# EAGLE library part TL072CP (library TL072CP)
Dual Low-Noise JFET-Input General-Purpose Operational Amplifier Source: Datasheet <http://www.ti.com/lit/ds/symlink/tl071a.pdf>
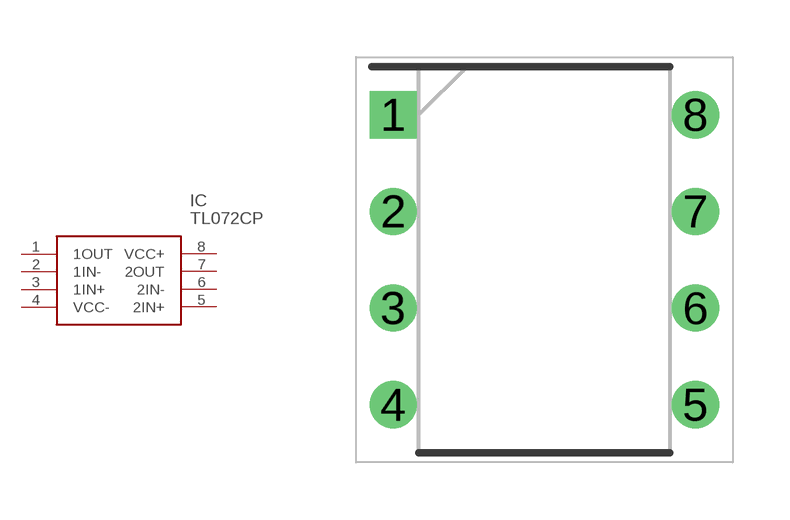
[diagram p0: symbol with the pads of DIP794W53P254L959H508Q8N; footprint DIP794W53P254L959H508Q8N]

Designator prefix IC

## TL072CP (Description: Dual Low-Noise JFET-Input General-Purpose Operational Amplifier; Height: 5.08mm; Manufacturer_Name: Texas Instruments; Manufacturer_Part_Number: TL072CP; Mouser_Part_Number: 595-TL072CP; Mouser_Price-Stock: https://www.mouser.co.uk/ProductDetail/Texas-Instruments/TL072CP?qs=5nGYs9Do7G3e6Tx9uHIgUA%3D%3D)  [DIP794W53P254L959H508Q8N]
1  1OUT
2  1IN-
3  1IN+
4  VCC-
5  2IN+
6  2IN-
7  2OUT
8  VCC+

## Footprint DIP794W53P254L959H508Q8N (pad centres in mm)
8-DIP (0.300", 7.62mm)
drill 0.73 pad 1.13 square: 1 -3.97,3.81
drill 0.73 pad 1.13: 2 -3.97,1.27; 3 -3.97,-1.27; 4 -3.97,-3.81; 5 3.97,-3.81; 6 3.97,-1.27; 7 3.97,1.27; 8 3.97,3.81